# Altium footprint library IPC-SM-782 Section 11.2 SQFP_QFP-Square.PcbLib: 78 footprints (part 1 of 7)
Each footprint in its own frame and in the unit in brackets; x right, y up, seen from the top. Pads: shape width x height; smd on the part's side, far side on the other; paste and mask are expansions set on the pad; w line width, h text height; cw(c..) or ccw(c..) is an arc to the next point about the centre after c.
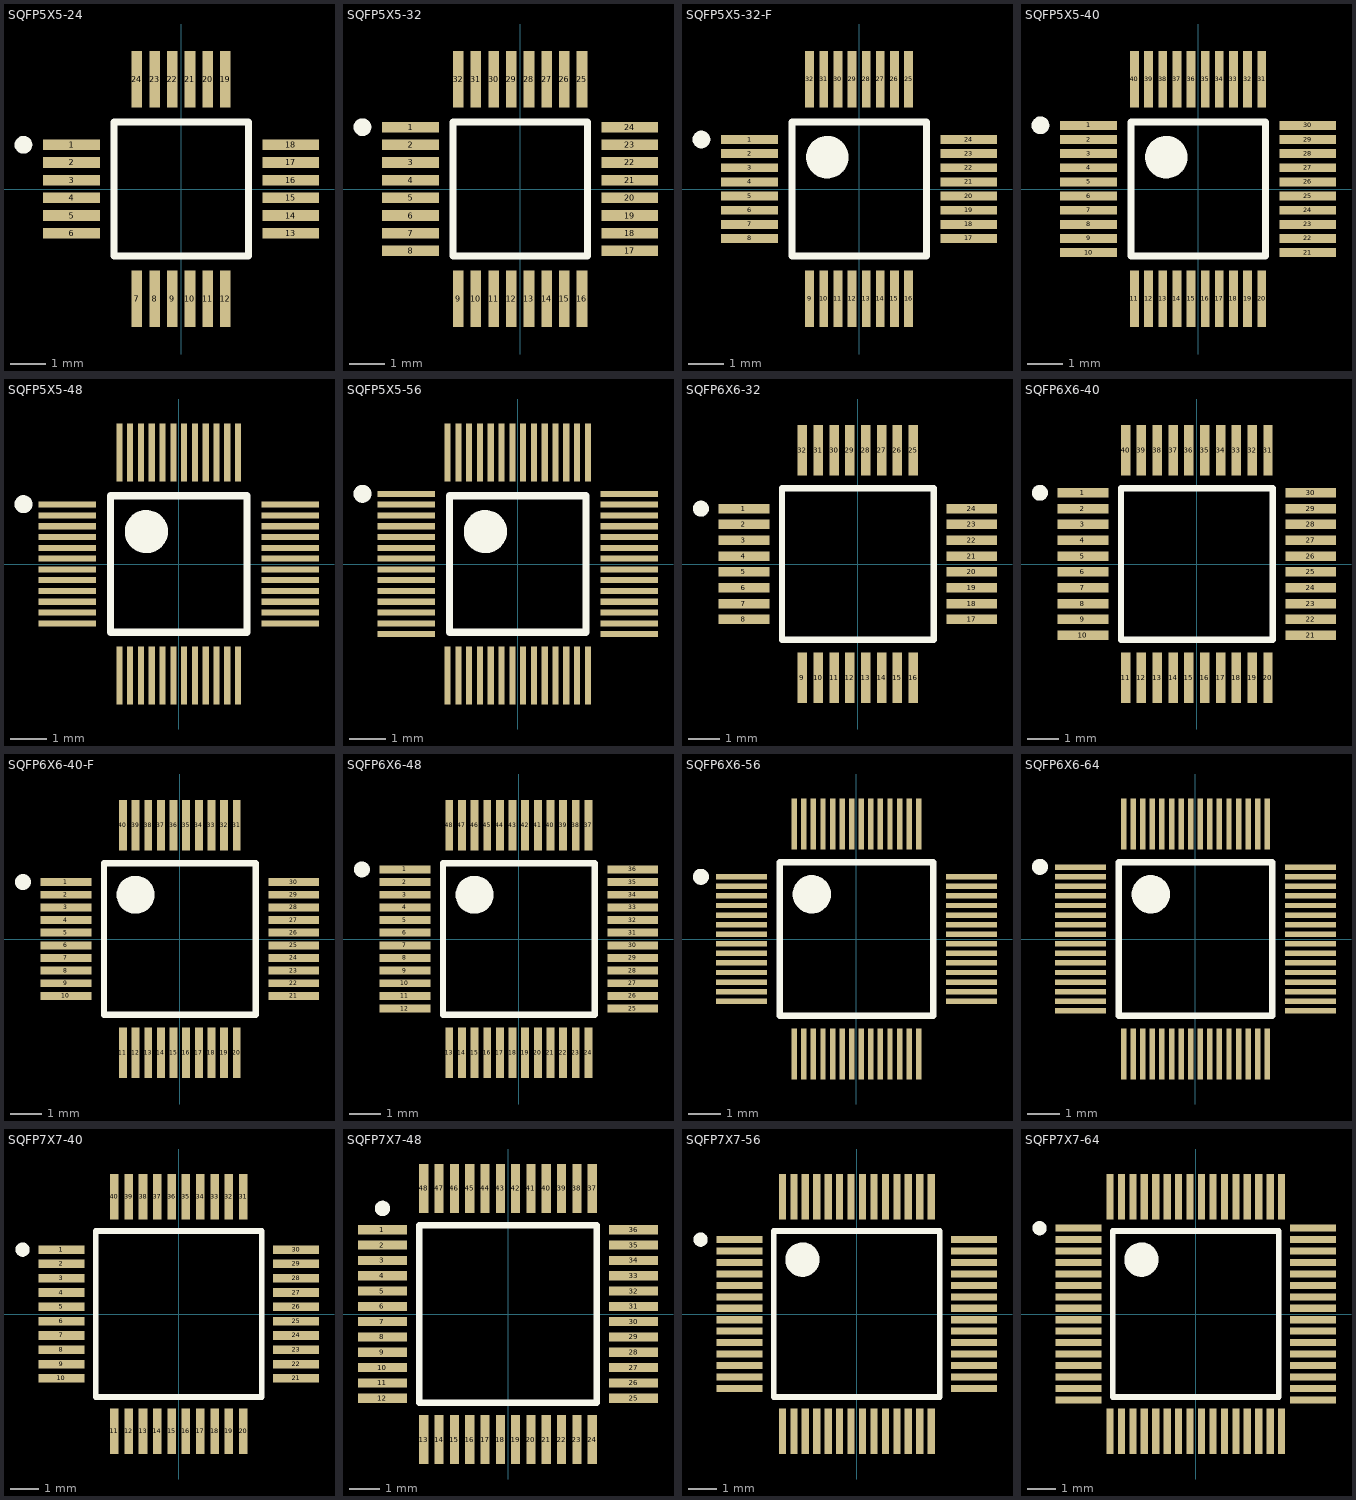
[diagram p0: the footprints below, top view; thin cyan lines are the x and y axes]

## SQFP5X5-24 [mm] "QFP; 24 Leads; Body 5 x 5 mm; Pitch 0.5 mm"
height 1.7
pads (24):
  rect 1.6x0.3 smd: 1(-3.1,1.25) 2(-3.1,0.75) 3(-3.1,0.25) 4(-3.1,-0.25) 5(-3.1,-0.75) 6(-3.1,-1.25) 13(3.1,-1.25) 14(3.1,-0.75) 15(3.1,-0.25) 16(3.1,0.25) 17(3.1,0.75) 18(3.1,1.25)
  rect 0.3x1.6 smd: 7(-1.25,-3.1) 8(-0.75,-3.1) 9(-0.25,-3.1) 10(0.25,-3.1) 11(0.75,-3.1) 12(1.25,-3.1) 19(1.25,3.1) 20(0.75,3.1) 21(0.25,3.1) 22(-0.25,3.1) 23(-0.75,3.1) 24(-1.25,3.1)
Top Overlay:
  circle w0.25: c-4.46,1.25 r0.125
  lines w0.2: -1.9,-1.9 -1.9,1.9 1.9,1.9 1.9,-1.9 -1.9,-1.9

## SQFP5X5-32 [mm] "QFP; 32 Leads; Body 5 x 5 mm; Pitch 0.5 mm"
height 1.7
pads (32):
  rect 1.6x0.3 smd: 1(-3.1,1.75) 2(-3.1,1.25) 3(-3.1,0.75) 4(-3.1,0.25) 5(-3.1,-0.25) 6(-3.1,-0.75) 7(-3.1,-1.25) 8(-3.1,-1.75) 17(3.1,-1.75) 18(3.1,-1.25) 19(3.1,-0.75) 20(3.1,-0.25) 21(3.1,0.25) 22(3.1,0.75) 23(3.1,1.25) 24(3.1,1.75)
  rect 0.3x1.6 smd: 9(-1.75,-3.1) 10(-1.25,-3.1) 11(-0.75,-3.1) 12(-0.25,-3.1) 13(0.25,-3.1) 14(0.75,-3.1) 15(1.25,-3.1) 16(1.75,-3.1) 25(1.75,3.1) 26(1.25,3.1) 27(0.75,3.1) 28(0.25,3.1) 29(-0.25,3.1) 30(-0.75,3.1) 31(-1.25,3.1) 32(-1.75,3.1)
Top Overlay:
  circle w0.25: c-4.46,1.75 r0.125
  lines w0.2: -1.9,-1.9 -1.9,1.9 1.9,1.9 1.9,-1.9 -1.9,-1.9

## SQFP5X5-32-F [mm] "QFP; 32 Leads; Body 5 x 5 mm; Pitch 0.4 mm"
height 1.7
pads (32):
  rect 1.6x0.25 smd: 1(-3.1,1.4) 2(-3.1,1) 3(-3.1,0.6) 4(-3.1,0.2) 5(-3.1,-0.2) 6(-3.1,-0.6) 7(-3.1,-1) 8(-3.1,-1.4) 17(3.1,-1.4) 18(3.1,-1) 19(3.1,-0.6) 20(3.1,-0.2) 21(3.1,0.2) 22(3.1,0.6) 23(3.1,1) 24(3.1,1.4)
  rect 0.25x1.6 smd: 9(-1.4,-3.1) 10(-1,-3.1) 11(-0.6,-3.1) 12(-0.2,-3.1) 13(0.2,-3.1) 14(0.6,-3.1) 15(1,-3.1) 16(1.4,-3.1) 25(1.4,3.1) 26(1,3.1) 27(0.6,3.1) 28(0.2,3.1) 29(-0.2,3.1) 30(-0.6,3.1) 31(-1,3.1) 32(-1.4,3.1)
Top Overlay:
  circle w0.6: c-0.9,0.9 r0.3
  circle w0.25: c-4.46,1.4 r0.125
  lines w0.2: -1.9,-1.9 -1.9,1.9 1.9,1.9 1.9,-1.9 -1.9,-1.9

## SQFP5X5-40 [mm] "QFP; 40 Leads; Body 5 x 5 mm; Pitch 0.4 mm"
height 1.7
pads (40):
  rect 1.6x0.25 smd: 1(-3.1,1.8) 2(-3.1,1.4) 3(-3.1,1) 4(-3.1,0.6) 5(-3.1,0.2) 6(-3.1,-0.2) 7(-3.1,-0.6) 8(-3.1,-1) 9(-3.1,-1.4) 10(-3.1,-1.8) 21(3.1,-1.8) 22(3.1,-1.4) 23(3.1,-1) 24(3.1,-0.6) 25(3.1,-0.2) 26(3.1,0.2) 27(3.1,0.6) 28(3.1,1) 29(3.1,1.4) 30(3.1,1.8)
  rect 0.25x1.6 smd: 11(-1.8,-3.1) 12(-1.4,-3.1) 13(-1,-3.1) 14(-0.6,-3.1) 15(-0.2,-3.1) 16(0.2,-3.1) 17(0.6,-3.1) 18(1,-3.1) 19(1.4,-3.1) 20(1.8,-3.1) 31(1.8,3.1) 32(1.4,3.1) 33(1,3.1) 34(0.6,3.1) 35(0.2,3.1) 36(-0.2,3.1) 37(-0.6,3.1) 38(-1,3.1) 39(-1.4,3.1) 40(-1.8,3.1)
Top Overlay:
  circle w0.25: c-4.46,1.8 r0.125
  circle w0.6: c-0.9,0.9 r0.3
  lines w0.2: -1.9,-1.9 -1.9,1.9 1.9,1.9 1.9,-1.9 -1.9,-1.9

## SQFP5X5-48 [mm] "QFP; 48 Leads; Body 5 x 5 mm; Pitch 0.3 mm"
height 1.7
pads (48):
  rect 1.6x0.17 smd: 1(-3.1,1.65) 2(-3.1,1.35) 3(-3.1,1.05) 4(-3.1,0.75) 5(-3.1,0.45) 6(-3.1,0.15) 7(-3.1,-0.15) 8(-3.1,-0.45) 9(-3.1,-0.75) 10(-3.1,-1.05) 11(-3.1,-1.35) 12(-3.1,-1.65) 25(3.1,-1.65) 26(3.1,-1.35) 27(3.1,-1.05) 28(3.1,-0.75) 29(3.1,-0.45) 30(3.1,-0.15) 31(3.1,0.15) 32(3.1,0.45) 33(3.1,0.75) 34(3.1,1.05) 35(3.1,1.35) 36(3.1,1.65)
  rect 0.17x1.6 smd: 13(-1.65,-3.1) 14(-1.35,-3.1) 15(-1.05,-3.1) 16(-0.75,-3.1) 17(-0.45,-3.1) 18(-0.15,-3.1) 19(0.15,-3.1) 20(0.45,-3.1) 21(0.75,-3.1) 22(1.05,-3.1) 23(1.35,-3.1) 24(1.65,-3.1) 37(1.65,3.1) 38(1.35,3.1) 39(1.05,3.1) 40(0.75,3.1) 41(0.45,3.1) 42(0.15,3.1) 43(-0.15,3.1) 44(-0.45,3.1) 45(-0.75,3.1) 46(-1.05,3.1) 47(-1.35,3.1) 48(-1.65,3.1)
Top Overlay:
  circle w0.6: c-0.9,0.9 r0.3
  circle w0.25: c-4.316,1.663 r0.125
  lines w0.2: -1.9,-1.9 -1.9,1.9 1.9,1.9 1.9,-1.9 -1.9,-1.9

## SQFP5X5-56 [mm] "QFP; 56 Leads; Body 5 x 5 mm; Pitch 0.3 mm"
height 1.7
pads (56):
  rect 1.6x0.17 smd: 1(-3.1,1.95) 2(-3.1,1.65) 3(-3.1,1.35) 4(-3.1,1.05) 5(-3.1,0.75) 6(-3.1,0.45) 7(-3.1,0.15) 8(-3.1,-0.15) 9(-3.1,-0.45) 10(-3.1,-0.75) 11(-3.1,-1.05) 12(-3.1,-1.35) 13(-3.1,-1.65) 14(-3.1,-1.95) 29(3.1,-1.95) 30(3.1,-1.65) 31(3.1,-1.35) 32(3.1,-1.05) 33(3.1,-0.75) 34(3.1,-0.45) 35(3.1,-0.15) 36(3.1,0.15) 37(3.1,0.45) 38(3.1,0.75) 39(3.1,1.05) 40(3.1,1.35) 41(3.1,1.65) 42(3.1,1.95)
  rect 0.17x1.6 smd: 15(-1.95,-3.1) 16(-1.65,-3.1) 17(-1.35,-3.1) 18(-1.05,-3.1) 19(-0.75,-3.1) 20(-0.45,-3.1) 21(-0.15,-3.1) 22(0.15,-3.1) 23(0.45,-3.1) 24(0.75,-3.1) 25(1.05,-3.1) 26(1.35,-3.1) 27(1.65,-3.1) 28(1.95,-3.1) 43(1.95,3.1) 44(1.65,3.1) 45(1.35,3.1) 46(1.05,3.1) 47(0.75,3.1) 48(0.45,3.1) 49(0.15,3.1) 50(-0.15,3.1) 51(-0.45,3.1) 52(-0.75,3.1) 53(-1.05,3.1) 54(-1.35,3.1) 55(-1.65,3.1) 56(-1.95,3.1)
Top Overlay:
  circle w0.25: c-4.316,1.952 r0.125
  circle w0.6: c-0.9,0.9 r0.3
  lines w0.2: -1.9,-1.9 1.9,-1.9 1.9,1.9 -1.9,1.9 -1.9,-1.9

## SQFP6X6-32 [mm] "QFP; 32 Leads; Body 6 x 6 mm; Pitch 0.5 mm"
height 1.7
pads (32):
  rect 1.6x0.3 smd: 1(-3.6,1.75) 2(-3.6,1.25) 3(-3.6,0.75) 4(-3.6,0.25) 5(-3.6,-0.25) 6(-3.6,-0.75) 7(-3.6,-1.25) 8(-3.6,-1.75) 17(3.6,-1.75) 18(3.6,-1.25) 19(3.6,-0.75) 20(3.6,-0.25) 21(3.6,0.25) 22(3.6,0.75) 23(3.6,1.25) 24(3.6,1.75)
  rect 0.3x1.6 smd: 9(-1.75,-3.6) 10(-1.25,-3.6) 11(-0.75,-3.6) 12(-0.25,-3.6) 13(0.25,-3.6) 14(0.75,-3.6) 15(1.25,-3.6) 16(1.75,-3.6) 25(1.75,3.6) 26(1.25,3.6) 27(0.75,3.6) 28(0.25,3.6) 29(-0.25,3.6) 30(-0.75,3.6) 31(-1.25,3.6) 32(-1.75,3.6)
Top Overlay:
  circle w0.25: c-4.96,1.75 r0.125
  lines w0.2: -2.4,-2.4 2.4,-2.4 2.4,2.4 -2.4,2.4 -2.4,-2.4

## SQFP6X6-40 [mm] "QFP; 40 Leads; Body 6 x 6 mm; Pitch 0.5 mm"
height 1.7
pads (40):
  rect 1.6x0.3 smd: 1(-3.6,2.25) 2(-3.6,1.75) 3(-3.6,1.25) 4(-3.6,0.75) 5(-3.6,0.25) 6(-3.6,-0.25) 7(-3.6,-0.75) 8(-3.6,-1.25) 9(-3.6,-1.75) 10(-3.6,-2.25) 21(3.6,-2.25) 22(3.6,-1.75) 23(3.6,-1.25) 24(3.6,-0.75) 25(3.6,-0.25) 26(3.6,0.25) 27(3.6,0.75) 28(3.6,1.25) 29(3.6,1.75) 30(3.6,2.25)
  rect 0.3x1.6 smd: 11(-2.25,-3.6) 12(-1.75,-3.6) 13(-1.25,-3.6) 14(-0.75,-3.6) 15(-0.25,-3.6) 16(0.25,-3.6) 17(0.75,-3.6) 18(1.25,-3.6) 19(1.75,-3.6) 20(2.25,-3.6) 31(2.25,3.6) 32(1.75,3.6) 33(1.25,3.6) 34(0.75,3.6) 35(0.25,3.6) 36(-0.25,3.6) 37(-0.75,3.6) 38(-1.25,3.6) 39(-1.75,3.6) 40(-2.25,3.6)
Top Overlay:
  circle w0.25: c-4.96,2.25 r0.125
  lines w0.2: -2.4,-2.4 2.4,-2.4 2.4,2.4 -2.4,2.4 -2.4,-2.4

## SQFP6X6-40-F [mm] "QFP; 40 Leads; Body 6 x 6 mm; Pitch 0.4 mm"
height 1.7
pads (40):
  rect 1.6x0.25 smd: 1(-3.6,1.8) 2(-3.6,1.4) 3(-3.6,1) 4(-3.6,0.6) 5(-3.6,0.2) 6(-3.6,-0.2) 7(-3.6,-0.6) 8(-3.6,-1) 9(-3.6,-1.4) 10(-3.6,-1.8) 21(3.6,-1.8) 22(3.6,-1.4) 23(3.6,-1) 24(3.6,-0.6) 25(3.6,-0.2) 26(3.6,0.2) 27(3.6,0.6) 28(3.6,1) 29(3.6,1.4) 30(3.6,1.8)
  rect 0.25x1.6 smd: 11(-1.8,-3.6) 12(-1.4,-3.6) 13(-1,-3.6) 14(-0.6,-3.6) 15(-0.2,-3.6) 16(0.2,-3.6) 17(0.6,-3.6) 18(1,-3.6) 19(1.4,-3.6) 20(1.8,-3.6) 31(1.8,3.6) 32(1.4,3.6) 33(1,3.6) 34(0.6,3.6) 35(0.2,3.6) 36(-0.2,3.6) 37(-0.6,3.6) 38(-1,3.6) 39(-1.4,3.6) 40(-1.8,3.6)
Top Overlay:
  circle w0.25: c-4.96,1.8 r0.125
  circle w0.6: c-1.4,1.4 r0.3
  lines w0.2: -2.4,-2.4 -2.4,2.4 2.4,2.4 2.4,-2.4 -2.4,-2.4

## SQFP6X6-48 [mm] "QFP; 48 Leads; Body 6 x 6 mm; Pitch 0.4 mm"
height 1.7
pads (48):
  rect 1.6x0.25 smd: 1(-3.6,2.2) 2(-3.6,1.8) 3(-3.6,1.4) 4(-3.6,1) 5(-3.6,0.6) 6(-3.6,0.2) 7(-3.6,-0.2) 8(-3.6,-0.6) 9(-3.6,-1) 10(-3.6,-1.4) 11(-3.6,-1.8) 12(-3.6,-2.2) 25(3.6,-2.2) 26(3.6,-1.8) 27(3.6,-1.4) 28(3.6,-1) 29(3.6,-0.6) 30(3.6,-0.2) 31(3.6,0.2) 32(3.6,0.6) 33(3.6,1) 34(3.6,1.4) 35(3.6,1.8) 36(3.6,2.2)
  rect 0.25x1.6 smd: 13(-2.2,-3.6) 14(-1.8,-3.6) 15(-1.4,-3.6) 16(-1,-3.6) 17(-0.6,-3.6) 18(-0.2,-3.6) 19(0.2,-3.6) 20(0.6,-3.6) 21(1,-3.6) 22(1.4,-3.6) 23(1.8,-3.6) 24(2.2,-3.6) 37(2.2,3.6) 38(1.8,3.6) 39(1.4,3.6) 40(1,3.6) 41(0.6,3.6) 42(0.2,3.6) 43(-0.2,3.6) 44(-0.6,3.6) 45(-1,3.6) 46(-1.4,3.6) 47(-1.8,3.6) 48(-2.2,3.6)
Top Overlay:
  circle w0.25: c-4.96,2.2 r0.125
  circle w0.6: c-1.4,1.4 r0.3
  lines w0.2: -2.4,-2.4 -2.4,2.4 2.4,2.4 2.4,-2.4 -2.4,-2.4

## SQFP6X6-56 [mm] "QFP; 56 Leads; Body 6 x 6 mm; Pitch 0.3 mm"
height 1.7
pads (56):
  rect 1.6x0.17 smd: 1(-3.6,1.95) 2(-3.6,1.65) 3(-3.6,1.35) 4(-3.6,1.05) 5(-3.6,0.75) 6(-3.6,0.45) 7(-3.6,0.15) 8(-3.6,-0.15) 9(-3.6,-0.45) 10(-3.6,-0.75) 11(-3.6,-1.05) 12(-3.6,-1.35) 13(-3.6,-1.65) 14(-3.6,-1.95) 29(3.6,-1.95) 30(3.6,-1.65) 31(3.6,-1.35) 32(3.6,-1.05) 33(3.6,-0.75) 34(3.6,-0.45) 35(3.6,-0.15) 36(3.6,0.15) 37(3.6,0.45) 38(3.6,0.75) 39(3.6,1.05) 40(3.6,1.35) 41(3.6,1.65) 42(3.6,1.95)
  rect 0.17x1.6 smd: 15(-1.95,-3.6) 16(-1.65,-3.6) 17(-1.35,-3.6) 18(-1.05,-3.6) 19(-0.75,-3.6) 20(-0.45,-3.6) 21(-0.15,-3.6) 22(0.15,-3.6) 23(0.45,-3.6) 24(0.75,-3.6) 25(1.05,-3.6) 26(1.35,-3.6) 27(1.65,-3.6) 28(1.95,-3.6) 43(1.95,3.6) 44(1.65,3.6) 45(1.35,3.6) 46(1.05,3.6) 47(0.75,3.6) 48(0.45,3.6) 49(0.15,3.6) 50(-0.15,3.6) 51(-0.45,3.6) 52(-0.75,3.6) 53(-1.05,3.6) 54(-1.35,3.6) 55(-1.65,3.6) 56(-1.95,3.6)
Top Overlay:
  circle w0.25: c-4.87,1.948 r0.125
  circle w0.6: c-1.4,1.4 r0.3
  lines w0.2: -2.4,-2.4 2.4,-2.4 2.4,2.4 -2.4,2.4 -2.4,-2.4

## SQFP6X6-64 [mm] "QFP; 64 Leads; Body 6 x 6 mm; Pitch 0.3 mm"
height 1.7
pads (64):
  rect 1.6x0.17 smd: 1(-3.6,2.25) 2(-3.6,1.95) 3(-3.6,1.65) 4(-3.6,1.35) 5(-3.6,1.05) 6(-3.6,0.75) 7(-3.6,0.45) 8(-3.6,0.15) 9(-3.6,-0.15) 10(-3.6,-0.45) 11(-3.6,-0.75) 12(-3.6,-1.05) 13(-3.6,-1.35) 14(-3.6,-1.65) 15(-3.6,-1.95) 16(-3.6,-2.25) 33(3.6,-2.25) 34(3.6,-1.95) 35(3.6,-1.65) 36(3.6,-1.35) 37(3.6,-1.05) 38(3.6,-0.75) 39(3.6,-0.45) 40(3.6,-0.15) 41(3.6,0.15) 42(3.6,0.45) 43(3.6,0.75) 44(3.6,1.05) 45(3.6,1.35) 46(3.6,1.65) 47(3.6,1.95) 48(3.6,2.25)
  rect 0.17x1.6 smd: 17(-2.25,-3.6) 18(-1.95,-3.6) 19(-1.65,-3.6) 20(-1.35,-3.6) 21(-1.05,-3.6) 22(-0.75,-3.6) 23(-0.45,-3.6) 24(-0.15,-3.6) 25(0.15,-3.6) 26(0.45,-3.6) 27(0.75,-3.6) 28(1.05,-3.6) 29(1.35,-3.6) 30(1.65,-3.6) 31(1.95,-3.6) 32(2.25,-3.6) 49(2.25,3.6) 50(1.95,3.6) 51(1.65,3.6) 52(1.35,3.6) 53(1.05,3.6) 54(0.75,3.6) 55(0.45,3.6) 56(0.15,3.6) 57(-0.15,3.6) 58(-0.45,3.6) 59(-0.75,3.6) 60(-1.05,3.6) 61(-1.35,3.6) 62(-1.65,3.6) 63(-1.95,3.6) 64(-2.25,3.6)
Top Overlay:
  circle w0.6: c-1.4,1.4 r0.3
  circle w0.25: c-4.869,2.26 r0.125
  lines w0.2: -2.4,-2.4 -2.4,2.4 2.4,2.4 2.4,-2.4 -2.4,-2.4

## SQFP7X7-40 [mm] "QFP; 40 Leads; Body 7 x 7 mm; Pitch 0.5 mm"
height 1.7
pads (40):
  rect 1.6x0.3 smd: 1(-4.1,2.25) 2(-4.1,1.75) 3(-4.1,1.25) 4(-4.1,0.75) 5(-4.1,0.25) 6(-4.1,-0.25) 7(-4.1,-0.75) 8(-4.1,-1.25) 9(-4.1,-1.75) 10(-4.1,-2.25) 21(4.1,-2.25) 22(4.1,-1.75) 23(4.1,-1.25) 24(4.1,-0.75) 25(4.1,-0.25) 26(4.1,0.25) 27(4.1,0.75) 28(4.1,1.25) 29(4.1,1.75) 30(4.1,2.25)
  rect 0.3x1.6 smd: 11(-2.25,-4.1) 12(-1.75,-4.1) 13(-1.25,-4.1) 14(-0.75,-4.1) 15(-0.25,-4.1) 16(0.25,-4.1) 17(0.75,-4.1) 18(1.25,-4.1) 19(1.75,-4.1) 20(2.25,-4.1) 31(2.25,4.1) 32(1.75,4.1) 33(1.25,4.1) 34(0.75,4.1) 35(0.25,4.1) 36(-0.25,4.1) 37(-0.75,4.1) 38(-1.25,4.1) 39(-1.75,4.1) 40(-2.25,4.1)
Top Overlay:
  circle w0.25: c-5.46,2.25 r0.125
  lines w0.2: -2.9,-2.9 -2.9,2.9 2.9,2.9 2.9,-2.9 -2.9,-2.9

## SQFP7X7-48 [mm] "QFP; 48 Leads; Body 7 x 7 mm; Pitch 0.5 mm"
height 1.7
pads (48):
  rect 1.6x0.3 smd: 1(-4.1,2.75) 2(-4.1,2.25) 3(-4.1,1.75) 4(-4.1,1.25) 5(-4.1,0.75) 6(-4.1,0.25) 7(-4.1,-0.25) 8(-4.1,-0.75) 9(-4.1,-1.25) 10(-4.1,-1.75) 11(-4.1,-2.25) 12(-4.1,-2.75) 25(4.1,-2.75) 26(4.1,-2.25) 27(4.1,-1.75) 28(4.1,-1.25) 29(4.1,-0.75) 30(4.1,-0.25) 31(4.1,0.25) 32(4.1,0.75) 33(4.1,1.25) 34(4.1,1.75) 35(4.1,2.25) 36(4.1,2.75)
  rect 0.3x1.6 smd: 13(-2.75,-4.1) 14(-2.25,-4.1) 15(-1.75,-4.1) 16(-1.25,-4.1) 17(-0.75,-4.1) 18(-0.25,-4.1) 19(0.25,-4.1) 20(0.75,-4.1) 21(1.25,-4.1) 22(1.75,-4.1) 23(2.25,-4.1) 24(2.75,-4.1) 37(2.75,4.1) 38(2.25,4.1) 39(1.75,4.1) 40(1.25,4.1) 41(0.75,4.1) 42(0.25,4.1) 43(-0.25,4.1) 44(-0.75,4.1) 45(-1.25,4.1) 46(-1.75,4.1) 47(-2.25,4.1) 48(-2.75,4.1)
Top Overlay:
  circle w0.25: c-4.1,3.45 r0.125
  lines w0.2: -2.9,-2.9 -2.9,2.9 2.9,2.9 2.9,-2.9 -2.9,-2.9

## SQFP7X7-56 [mm] "QFP; 56 Leads; Body 7 x 7 mm; Pitch 0.4 mm"
height 1.7
pads (56):
  rect 1.6x0.25 smd: 1(-4.1,2.6) 2(-4.1,2.2) 3(-4.1,1.8) 4(-4.1,1.4) 5(-4.1,1) 6(-4.1,0.6) 7(-4.1,0.2) 8(-4.1,-0.2) 9(-4.1,-0.6) 10(-4.1,-1) 11(-4.1,-1.4) 12(-4.1,-1.8) 13(-4.1,-2.2) 14(-4.1,-2.6) 29(4.1,-2.6) 30(4.1,-2.2) 31(4.1,-1.8) 32(4.1,-1.4) 33(4.1,-1) 34(4.1,-0.6) 35(4.1,-0.2) 36(4.1,0.2) 37(4.1,0.6) 38(4.1,1) 39(4.1,1.4) 40(4.1,1.8) 41(4.1,2.2) 42(4.1,2.6)
  rect 0.25x1.6 smd: 15(-2.6,-4.1) 16(-2.2,-4.1) 17(-1.8,-4.1) 18(-1.4,-4.1) 19(-1,-4.1) 20(-0.6,-4.1) 21(-0.2,-4.1) 22(0.2,-4.1) 23(0.6,-4.1) 24(1,-4.1) 25(1.4,-4.1) 26(1.8,-4.1) 27(2.2,-4.1) 28(2.6,-4.1) 43(2.6,4.1) 44(2.2,4.1) 45(1.8,4.1) 46(1.4,4.1) 47(1,4.1) 48(0.6,4.1) 49(0.2,4.1) 50(-0.2,4.1) 51(-0.6,4.1) 52(-1,4.1) 53(-1.4,4.1) 54(-1.8,4.1) 55(-2.2,4.1) 56(-2.6,4.1)
Top Overlay:
  circle w0.25: c-5.46,2.6 r0.125
  circle w0.6: c-1.9,1.9 r0.3
  lines w0.2: -2.9,-2.9 -2.9,2.9 2.9,2.9 2.9,-2.9 -2.9,-2.9

## SQFP7X7-64 [mm] "QFP; 64 Leads; Body 7 x 7 mm; Pitch 0.4 mm"
height 1.7
pads (64):
  rect 1.6x0.25 smd: 1(-4.1,3) 2(-4.1,2.6) 3(-4.1,2.2) 4(-4.1,1.8) 5(-4.1,1.4) 6(-4.1,1) 7(-4.1,0.6) 8(-4.1,0.2) 9(-4.1,-0.2) 10(-4.1,-0.6) 11(-4.1,-1) 12(-4.1,-1.4) 13(-4.1,-1.8) 14(-4.1,-2.2) 15(-4.1,-2.6) 16(-4.1,-3) 33(4.1,-3) 34(4.1,-2.6) 35(4.1,-2.2) 36(4.1,-1.8) 37(4.1,-1.4) 38(4.1,-1) 39(4.1,-0.6) 40(4.1,-0.2) 41(4.1,0.2) 42(4.1,0.6) 43(4.1,1) 44(4.1,1.4) 45(4.1,1.8) 46(4.1,2.2) 47(4.1,2.6) 48(4.1,3)
  rect 0.25x1.6 smd: 17(-3,-4.1) 18(-2.6,-4.1) 19(-2.2,-4.1) 20(-1.8,-4.1) 21(-1.4,-4.1) 22(-1,-4.1) 23(-0.6,-4.1) 24(-0.2,-4.1) 25(0.2,-4.1) 26(0.6,-4.1) 27(1,-4.1) 28(1.4,-4.1) 29(1.8,-4.1) 30(2.2,-4.1) 31(2.6,-4.1) 32(3,-4.1) 49(3,4.1) 50(2.6,4.1) 51(2.2,4.1) 52(1.8,4.1) 53(1.4,4.1) 54(1,4.1) 55(0.6,4.1) 56(0.2,4.1) 57(-0.2,4.1) 58(-0.6,4.1) 59(-1,4.1) 60(-1.4,4.1) 61(-1.8,4.1) 62(-2.2,4.1) 63(-2.6,4.1) 64(-3,4.1)
Top Overlay:
  circle w0.25: c-5.46,3 r0.125
  circle w0.6: c-1.9,1.9 r0.3
  lines w0.2: -2.9,-2.9 -2.9,2.9 2.9,2.9 2.9,-2.9 -2.9,-2.9